# Altium schematic symbol library HMC429.SchLib: 1 symbol
Pins are listed as number, name and electrical type; pins without a type are passive.

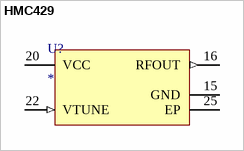
[diagram p0: symbol HMC429]

## HMC429
designator U?
MMIC VCO w/ BUFFER AMPLIFIER, 4.45 - 5.0 GHz
footprint HMC429 (QFN, 24-Leads, Body 4.00x4.00mm, Pitch 0.50mm, Thermal Pad 2.80x2.80mm, IPC Medium Density)
pins: 15 GND (power), 16 RFOUT (out), 20 VCC (power), 22 VTUNE (in), 25 EP (power)